# Altium integrated library CL10B104KO8NNNC.IntLib: 1 symbol
Pins are listed as number, name and electrical type; pins without a type are passive.

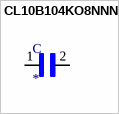
[diagram p0: symbol CL10B104KO8NNNC]

## CL10B104KO8NNNC
designator C
0.1ÂµF Â±10% 16V Ceramic Capacitor X7R 0603 _1608 Metric_; MP: CL10B104KO8NNNC; MF: Samsung Electro-Mechanics; SnapEDA_Link: https://www.snapeda.com/parts/CL10B104KO8NNNC/Samsung%20Electro-Mechanics/view-part/3598551/?ref=snap; Availability: Unavailable; Value: *; Price: None; Package: 0603 Samsung
footprint CAPC1608X90N
pins: 1, 2